# Altium integrated library LDO.IntLib: 3 symbols
Pins are listed as number, name and electrical type; pins without a type are passive.

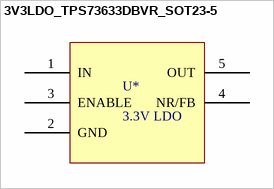
[diagram p0: symbol 3V3LDO_TPS73633DBVR_SOT23-5]

## 3V3LDO_TPS73633DBVR_SOT23-5
designator U*, comment 3.3V LDO
Linear Voltage Regulator IC Positive Fixed 1 Output 3.3V 400mA SOT-23-5
footprint SOT95P280X145-5N (SOT23, 5-Leads, Body 2.90x2.80mm, Pitch 0.95mm, IPC Medium Density)
pins: 1 IN (power), 2 GND (power), 3 ENABLE (power), 4 NR/FB (power), 5 OUT (power)


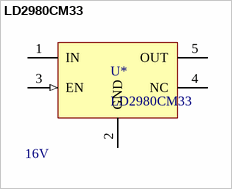
[diagram p1: symbol LD2980CM33]

## LD2980CM33
designator U*  Voltage: 16V
IC REG LDO 3.3V 50MA SOT23-5; Supplier 1: Digi-Key; Supplier Part Number 1: 497-3479-1-ND
footprint SOT95P280X145-5N (SOT23, 5-Leads, Body 2.90x2.80mm, Pitch 0.95mm, IPC Medium Density)
pins: 1 IN (power), 2 GND (power), 3 EN (in), 4 NC, 5 OUT (power)


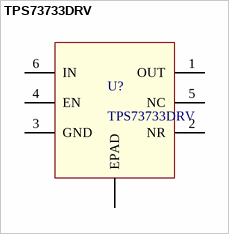
[diagram p2: symbol TPS73733DRV]

## TPS73733DRV
designator U?
IC REG LDO 3.3V 1A 6SON; Supplier 1: Digikey; Supplier Part Number 1: 296-40960-1-ND
footprint SON65P200X80_HS-7M (SON, 6-Leads, Body 2.00x2.00mm, Pitch 0.65mm, Thermal Pad 1.60x0.89mm, IPC Low Density)
pins: 1 OUT (power), 2 NR, 3 GND (power), 4 EN, 5 NC, 6 IN (power), 7 EPAD